# Altium footprint library Radios_Comunitarias.PcbLib: 39 footprints (part 2 of 3)
Each footprint in its own frame and in the unit in brackets; x right, y up, seen from the top. Pads: shape width x height; smd on the part's side, far side on the other; paste and mask are expansions set on the pad; w line width, h text height; cw(c..) or ccw(c..) is an arc to the next point about the centre after c.
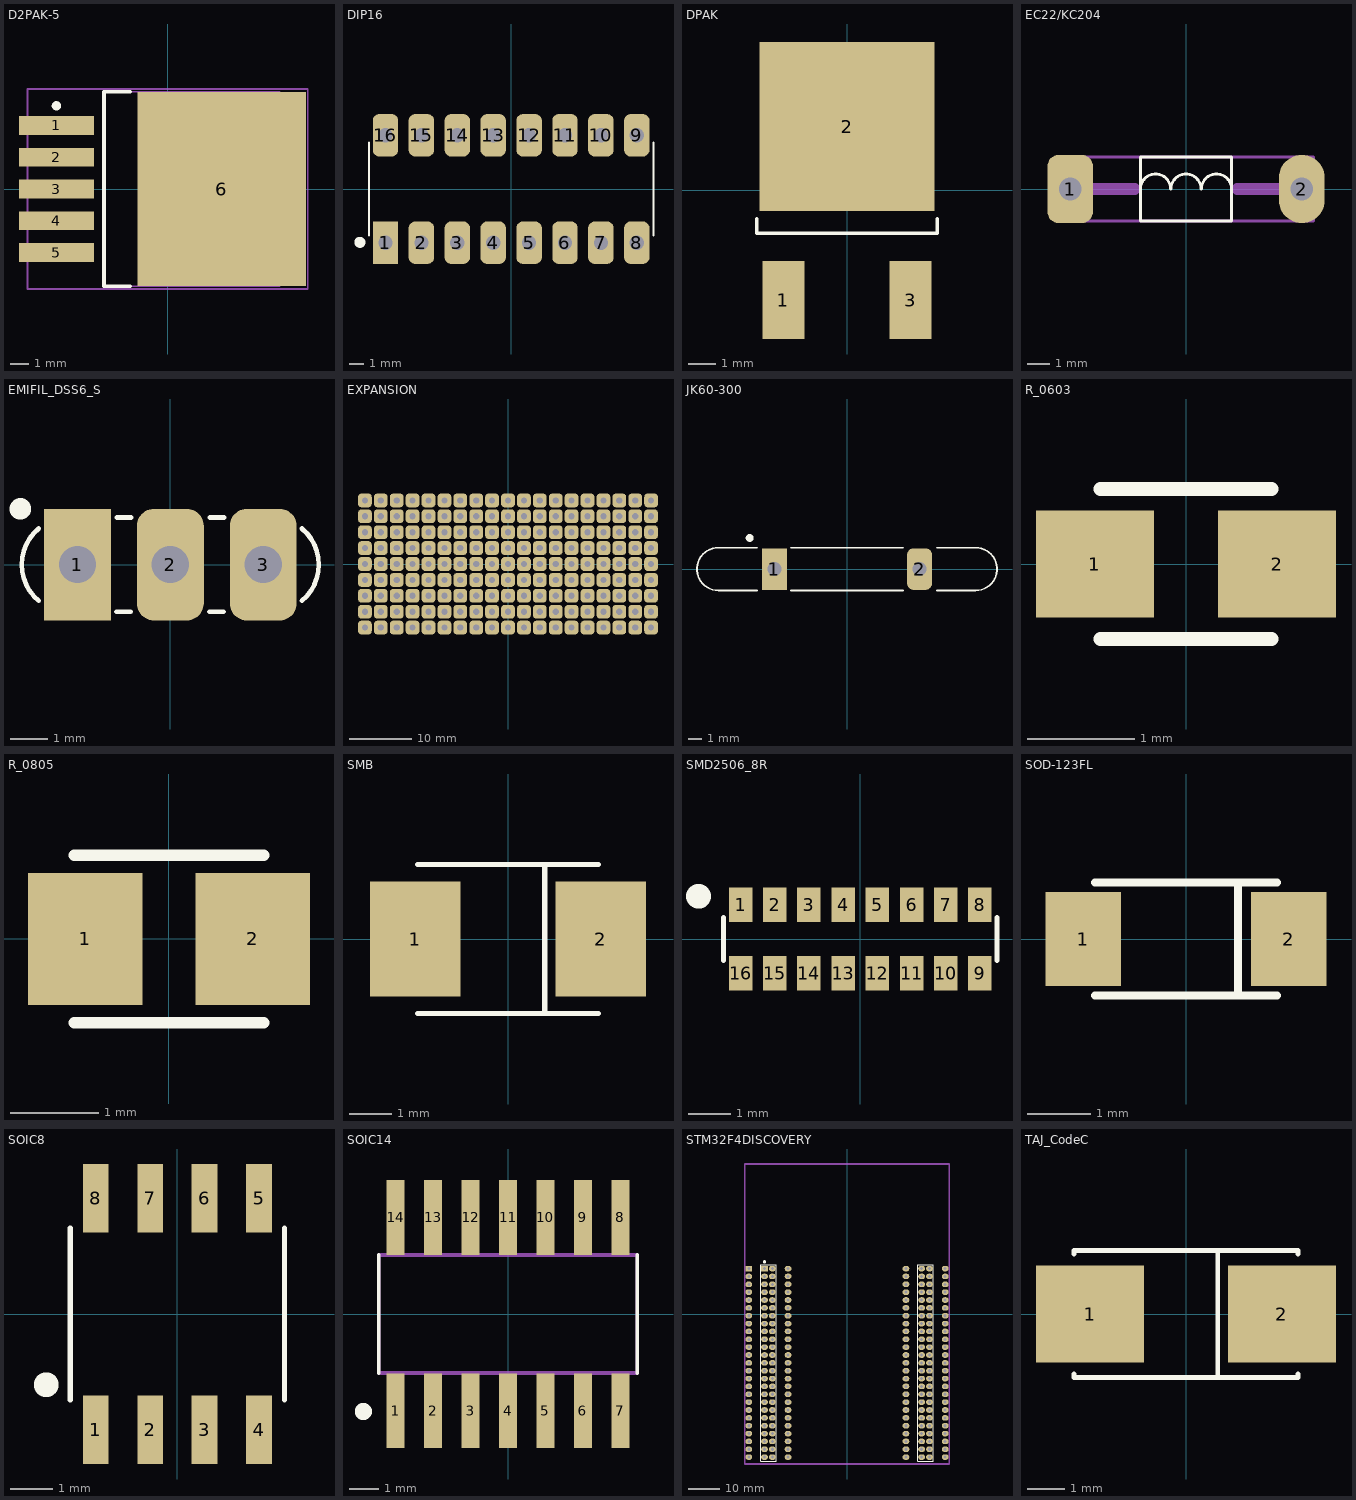
[diagram p1: the footprints below, top view; thin cyan lines are the x and y axes]

## D2PAK-5 [mm] "D2PAK 5 leads"
pads (6):
  rect 4x1 smd: 1(-5.95,3.4) 2(-5.95,1.7) 3(-5.95,0) 4(-5.95,-1.7) 5(-5.95,-3.4)
  rect 9x10.4 smd: 6(2.9,0)
Top Overlay:
  circle w0.25: c-5.95,4.45 r0.125
  lines w0.2: -2,-5.2 -3.4,-5.2 -3.4,5.2 -2,5.2
Mechanical 13:
  lines w0.1: -3.4,-5.2 6,-5.2 6,5.2 -3.4,5.2 -3.4,-5.2
Mechanical 15:
  lines w0.1: -0.5,0 0.5,0 ; 0,-0.5 0,0.5 ; -7.5,-5.35 7.5,-5.35 7.5,5.35 -7.5,5.35 -7.5,-5.35
3D body: height 4.65, standoff 0, extent -3.4,-5.2 6,5.2

## DIP16 [mm] "DIP16 sacado de la norma IPC"
height 5.33
pads (16):
  rect 1.8x3 hole 1: 1(-8.89,-3.8)
  rrect50% 1.8x3 hole 1: 2(-6.35,-3.8) 3(-3.81,-3.8) 4(-1.27,-3.8) 5(1.27,-3.8) 6(3.81,-3.8) 7(6.35,-3.8) 8(8.89,-3.8) 9(8.89,3.8) 10(6.35,3.8) 11(3.81,3.8) 12(1.27,3.8) 13(-1.27,3.8) 14(-3.81,3.8) 15(-6.35,3.8) 16(-8.89,3.8)
Top Overlay:
  circle w0.508: c-10.7,-3.775 r0.135
  lines w0.127: -10.065,-3.303 -10.065,3.303 ; 10.065,-3.303 10.065,3.303

## DPAK [mm]
pads (3):
  rect 1.5x2.8 smd: 1(-2.286,-3.95) 3(2.286,-3.95)
  rect 6.3x6.1 smd: 2(0,2.3)
Top Overlay:
  lines w0.127: -3.25,-1.025 -3.25,-1.55 3.25,-1.55 3.25,-1.025

## EC22/KC204 [mm] "Ferrite bead TH"
pads (2):
  rrect50% 2x3 hole 1 unplated: 1(-5.08,0)
  oval 2x3 hole 1 unplated: 2(5.08,0)
Top Overlay:
  lines w0.127: -1.995,0 cw(c-1.335,0) -0.675,0 ; -0.66,0 cw(c0,0) 0.66,0 ; 0.675,0 cw(c1.335,0) 1.995,0 ; -2,-1.4 -2,1.4 2,1.4 2,-1.4 -2,-1.4
Mechanical 15:
  lines w0.127: -5.588,-1.4 -5.588,1.4 5.588,1.4 5.588,-1.4 -5.588,-1.4
  lines w0.508: -5.08,0 -2.25,0 ; 2.25,0 5.08,0

## EMIFIL_DSS6_S [mm] "Emi Filter DSS6 series straight type"
height 7
pads (3):
  rect 1.8x3 hole 1: 1(-2.5,0)
  rrect50% 1.8x3 hole 1: 2(0,0) 3(2.5,0)
Top Overlay:
  circle w0.508: c-4.035,1.5 r0.035
  lines w0.127: -3.541,-0.973 cw(c-2.725,0) -3.541,0.973 ; -1.448,-1.27 -1.067,-1.27 ; -1.433,1.27 -1.052,1.27 ; 1.052,-1.27 1.433,-1.27 ; 1.067,1.27 1.448,1.27 ; 3.541,-0.973 ccw(c2.725,0) 3.541,0.973

## EXPANSION [mm]
pads (171):
  rrect50% 2.2x2.2 hole 1: ""(-22.86,-10.16) ""(-22.86,-7.62) ""(-22.86,-5.08) ""(-22.86,-2.54) ""(-22.86,0) ""(-22.86,2.54) ""(-22.86,5.08) ""(-22.86,7.62) ""(-22.86,10.16) ""(-20.32,-10.16) ""(-20.32,-7.62) ""(-20.32,-5.08) ""(-20.32,-2.54) ""(-20.32,0) ""(-20.32,2.54) ""(-20.32,5.08) ""(-20.32,7.62) ""(-20.32,10.16) ""(-17.78,-10.16) ""(-17.78,-7.62) ""(-17.78,-5.08) ""(-17.78,-2.54) ""(-17.78,0) ""(-17.78,2.54) ""(-17.78,5.08) ""(-17.78,7.62) ""(-17.78,10.16) ""(-15.24,-10.16) ""(-15.24,-7.62) ""(-15.24,-5.08) ""(-15.24,-2.54) ""(-15.24,0) ""(-15.24,2.54) ""(-15.24,5.08) ""(-15.24,7.62) ""(-15.24,10.16) ""(-12.7,-10.16) ""(-12.7,-7.62) ""(-12.7,-5.08) ""(-12.7,-2.54) ""(-12.7,0) ""(-12.7,2.54) ""(-12.7,5.08) ""(-12.7,7.62) ""(-12.7,10.16) ""(-10.16,-10.16) ""(-10.16,-7.62) ""(-10.16,-5.08) ""(-10.16,-2.54) ""(-10.16,0) ""(-10.16,2.54) ""(-10.16,5.08) ""(-10.16,7.62) ""(-10.16,10.16) ""(-7.62,-10.16) ""(-7.62,-7.62) ""(-7.62,-5.08) ""(-7.62,-2.54) ""(-7.62,0) ""(-7.62,2.54) ""(-7.62,5.08) ""(-7.62,7.62) ""(-7.62,10.16) ""(-5.08,-10.16) ""(-5.08,-7.62) ""(-5.08,-5.08) ""(-5.08,-2.54) ""(-5.08,0) ""(-5.08,2.54) ""(-5.08,5.08) ""(-5.08,7.62) ""(-5.08,10.16) ""(-2.54,-10.16) ""(-2.54,-7.62) ""(-2.54,-5.08) ""(-2.54,-2.54) ""(-2.54,0) ""(-2.54,2.54) ""(-2.54,5.08) ""(-2.54,7.62) ""(-2.54,10.16) ""(0,-10.16) ""(0,-7.62) ""(0,-5.08) ""(0,-2.54) ""(0,0) ""(0,2.54) ""(0,5.08) ""(0,7.62) ""(0,10.16) ""(2.54,-10.16) ""(2.54,-7.62) ""(2.54,-5.08) ""(2.54,-2.54) ""(2.54,0) ""(2.54,2.54) ""(2.54,5.08) ""(2.54,7.62) ""(2.54,10.16) ""(5.08,-10.16) ""(5.08,-7.62) ""(5.08,-5.08) ""(5.08,-2.54) ""(5.08,0) ""(5.08,2.54) ""(5.08,5.08) ""(5.08,7.62) ""(5.08,10.16) ""(7.62,-10.16) ""(7.62,-7.62) ""(7.62,-5.08) ""(7.62,-2.54) ""(7.62,0) ""(7.62,2.54) ""(7.62,5.08) ""(7.62,7.62) ""(7.62,10.16) ""(10.16,-10.16) ""(10.16,-7.62) ""(10.16,-5.08) ""(10.16,-2.54) ""(10.16,0) ""(10.16,2.54) ""(10.16,5.08) ""(10.16,7.62) ""(10.16,10.16) ""(12.7,-10.16) ""(12.7,-7.62) ""(12.7,-5.08) ""(12.7,-2.54) ""(12.7,0) ""(12.7,2.54) ""(12.7,5.08) ""(12.7,7.62) ""(12.7,10.16) ""(15.24,-10.16) ""(15.24,-7.62) ""(15.24,-5.08) ""(15.24,-2.54) ""(15.24,0) ""(15.24,2.54) ""(15.24,5.08) ""(15.24,7.62) ""(15.24,10.16) ""(17.78,-10.16) ""(17.78,-7.62) ""(17.78,-5.08) ""(17.78,-2.54) ""(17.78,0) ""(17.78,2.54) ""(17.78,5.08) ""(17.78,7.62) ""(17.78,10.16) ""(20.32,-10.16) ""(20.32,-7.62) ""(20.32,-5.08) ""(20.32,-2.54) ""(20.32,0) ""(20.32,2.54) ""(20.32,5.08) ""(20.32,7.62) ""(20.32,10.16) ""(22.86,-10.16) ""(22.86,-7.62) ""(22.86,-5.08) ""(22.86,-2.54) ""(22.86,0) ""(22.86,2.54) ""(22.86,5.08) ""(22.86,7.62) ""(22.86,10.16)

## JK60-300 [mm] "Poly de JK60-300"
height 26.4
pads (2):
  rect 1.8x3 hole 1: 1(-5.25,0)
  rrect50% 1.8x3 hole 1: 2(5.25,0)
Top Overlay:
  circle w0.508: c-7.035,2.25 r0.035
  lines w0.127: -6.5,-1.55 -9.3,-1.55 cw(c-9.3,0) -9.3,1.55 -6.5,1.55 ; -4.05,-1.55 4.05,-1.55 ; -4.05,1.55 4.05,1.55 ; 6.5,-1.55 9.3,-1.55 ccw(c9.3,0) 9.3,1.55 6.5,1.55

## R_0603 [mm] "Resistencia SMD 0603"
height 0.6
pads (2):
  rect 1.1x1 smd: 1(-0.85,0) 2(0.85,0)
Top Overlay:
  lines w0.127: -0.8,-0.7 0.8,-0.7 ; -0.8,0.7 0.8,0.7

## R_0805 [mm] "Resistencia SMD 0805"
height 0.65
pads (2):
  rect 1.3x1.5 smd: 1(-0.95,0) 2(0.95,0)
Top Overlay:
  lines w0.127: -1.075,-0.95 1.075,-0.95 ; -1.075,0.95 1.075,0.95

## SMB [mm] "Componente SMB (sacado del diodo TVS)"
height 2.45
pads (2):
  rect 2.159x2.743 smd: 1(-2.21,0) 2(2.21,0)
Top Overlay:
  lines w0.127: -2.16,-1.78 2.16,-1.78 ; -2.16,1.78 2.16,1.78 ; 0.875,-1.78 0.875,1.78

## SMD2506_8R [mm] "Array SMD de 8 resistencias (0603x8)"
height 0.6
pads (16):
  rect 0.55x0.8 smd: 1(-2.8,0.8) 2(-2,0.8) 3(-1.2,0.8) 4(-0.4,0.8) 5(0.4,0.8) 6(1.2,0.8) 7(2,0.8) 8(2.8,0.8) 9(2.8,-0.8) 10(2,-0.8) 11(1.2,-0.8) 12(0.4,-0.8) 13(-0.4,-0.8) 14(-1.2,-0.8) 15(-2,-0.8) 16(-2.8,-0.8)
Top Overlay:
  circle w0.508: c-3.785,1 r0.035
  lines w0.127: -3.2,-0.5 -3.2,0.5 ; 3.2,-0.5 3.2,0.5

## SOD-123FL [mm] "Encapsulado SMD"
height 1
pads (2):
  rect 1.2x1.5 smd: 1(-1.637,0) 2(1.637,0)
Top Overlay:
  lines w0.127: -1.45,-0.9 1.45,-0.9 ; -1.45,0.9 1.45,0.9 ; 0.825,-0.9 0.825,0.9

## SOIC8 [mm] "SOIC8"
height 1.75
pads (8):
  rect 0.6x1.6 smd: 1(-1.905,-2.7) 2(-0.635,-2.7) 3(0.635,-2.7) 4(1.905,-2.7) 5(1.905,2.7) 6(0.635,2.7) 7(-0.635,2.7) 8(-1.905,2.7)
Top Overlay:
  circle w0.508: c-3.06,-1.65 r0.035
  lines w0.127: -2.5,-2 -2.5,2 ; 2.5,-2 2.5,2

## SOIC14 [mm] "SOIC14"
height 1.75
pads (14):
  rect 0.6x2.54 smd: 1(-3.81,-3.277) 2(-2.54,-3.277) 3(-1.27,-3.277) 4(0,-3.277) 5(1.27,-3.277) 6(2.54,-3.277) 7(3.81,-3.277) 8(3.81,3.277) 9(2.54,3.277) 10(1.27,3.277) 11(0,3.277) 12(-1.27,3.277) 13(-2.54,3.277) 14(-3.81,3.277)
Top Overlay:
  circle w0.508: c-4.9,-3.3 r0.035
  lines w0.127: -4.375,-2 -4.375,2 ; 4.375,-2 4.375,2
Mechanical 15:
  lines w0.127: -4.375,-2 4.375,-2 4.375,2 -4.375,2 -4.375,-2

## STM32F4DISCOVERY [mm] "STM32F4DISCOVERY (STM32F407VGT6)"
pads (200):
  rect 2.2x1.8 hole 1: P1.1(-31.75,14.68) P1.1(-26.67,14.68)
  oval 2.2x1.8 hole 1: P1.2(-24.13,14.68) P1.2(-19.05,14.68) P1.3(-31.75,12.14) P1.3(-26.67,12.14) P1.4(-24.13,12.14) P1.4(-19.05,12.14) P1.5(-31.75,9.6) P1.5(-26.67,9.6) P1.6(-24.13,9.6) P1.6(-19.05,9.6) P1.7(-31.75,7.06) P1.7(-26.67,7.06) P1.8(-24.13,7.06) P1.8(-19.05,7.06) P1.9(-31.75,4.52) P1.9(-26.67,4.52) P1.10(-24.13,4.52) P1.10(-19.05,4.52) P1.11(-31.75,1.98) P1.11(-26.67,1.98) P1.12(-24.13,1.98) P1.12(-19.05,1.98) P1.13(-31.75,-0.56) P1.13(-26.67,-0.56) P1.14(-24.13,-0.56) P1.14(-19.05,-0.56) P1.15(-31.75,-3.1) P1.15(-26.67,-3.1) P1.16(-24.13,-3.1) P1.16(-19.05,-3.1) P1.17(-31.75,-5.64) P1.17(-26.67,-5.64) P1.18(-24.13,-5.64) P1.18(-19.05,-5.64) P1.19(-31.75,-8.18) P1.19(-26.67,-8.18) P1.20(-24.13,-8.18) P1.20(-19.05,-8.18) P1.21(-31.75,-10.72) P1.21(-26.67,-10.72) P1.22(-24.13,-10.72) P1.22(-19.05,-10.72) P1.23(-31.75,-13.26) P1.23(-26.67,-13.26) P1.24(-24.13,-13.26) P1.24(-19.05,-13.26) P1.25(-31.75,-15.8) P1.25(-26.67,-15.8) P1.26(-24.13,-15.8) P1.26(-19.05,-15.8) P1.27(-31.75,-18.34) P1.27(-26.67,-18.34) P1.28(-24.13,-18.34) P1.28(-19.05,-18.34) P1.29(-31.75,-20.88) P1.29(-26.67,-20.88) P1.30(-24.13,-20.88) P1.30(-19.05,-20.88) P1.31(-31.75,-23.42) P1.31(-26.67,-23.42) P1.32(-24.13,-23.42) P1.32(-19.05,-23.42) P1.33(-31.75,-25.96) P1.33(-26.67,-25.96) P1.34(-24.13,-25.96) P1.34(-19.05,-25.96) P1.35(-31.75,-28.5) P1.35(-26.67,-28.5) P1.36(-24.13,-28.5) P1.36(-19.05,-28.5) P1.37(-31.75,-31.04) P1.37(-26.67,-31.04) P1.38(-24.13,-31.04) P1.38(-19.05,-31.04) P1.39(-31.75,-33.58) P1.39(-26.67,-33.58) P1.40(-24.13,-33.58) P1.40(-19.05,-33.58) P1.41(-31.75,-36.12) P1.41(-26.67,-36.12) P1.42(-24.13,-36.12) P1.42(-19.05,-36.12) P1.43(-31.75,-38.66) P1.43(-26.67,-38.66) P1.44(-24.13,-38.66) P1.44(-19.05,-38.66) P1.45(-31.75,-41.2) P1.45(-26.67,-41.2) P1.46(-24.13,-41.2) P1.46(-19.05,-41.2) P1.47(-31.75,-43.74) P1.47(-26.67,-43.74) P1.48(-24.13,-43.74) P1.48(-19.05,-43.74) P1.49(-31.75,-46.28) P1.49(-26.67,-46.28) P1.50(-24.13,-46.28) P1.50(-19.05,-46.28) P2.1(19.05,14.68) P2.1(24.13,14.68) P2.2(26.67,14.68) P2.2(31.75,14.68) P2.3(19.05,12.14) P2.3(24.13,12.14) P2.4(26.67,12.14) P2.4(31.75,12.14) P2.5(19.05,9.6) P2.5(24.13,9.6) P2.6(26.67,9.6) P2.6(31.75,9.6) P2.7(19.05,7.06) P2.7(24.13,7.06) P2.8(26.67,7.06) P2.8(31.75,7.06) P2.9(19.05,4.52) P2.9(24.13,4.52) P2.10(26.67,4.52) P2.10(31.75,4.52) P2.11(19.05,1.98) P2.11(24.13,1.98) P2.12(26.67,1.98) P2.12(31.75,1.98) P2.13(19.05,-0.56) P2.13(24.13,-0.56) P2.14(26.67,-0.56) P2.14(31.75,-0.56) P2.15(19.05,-3.1) P2.15(24.13,-3.1) P2.16(26.67,-3.1) P2.16(31.75,-3.1) P2.17(19.05,-5.64) P2.17(24.13,-5.64) P2.18(26.67,-5.64) P2.18(31.75,-5.64) P2.19(19.05,-8.18) P2.19(24.13,-8.18) P2.20(26.67,-8.18) P2.20(31.75,-8.18) P2.21(19.05,-10.72) P2.21(24.13,-10.72) P2.22(26.67,-10.72) P2.22(31.75,-10.72) P2.23(19.05,-13.26) P2.23(24.13,-13.26) P2.24(26.67,-13.26) P2.24(31.75,-13.26) P2.25(19.05,-15.8) P2.25(24.13,-15.8) P2.26(26.67,-15.8) P2.26(31.75,-15.8) P2.27(19.05,-18.34) P2.27(24.13,-18.34) P2.28(26.67,-18.34) P2.28(31.75,-18.34) P2.29(19.05,-20.88) P2.29(24.13,-20.88) P2.30(26.67,-20.88) P2.30(31.75,-20.88) P2.31(19.05,-23.42) P2.31(24.13,-23.42) P2.32(26.67,-23.42) P2.32(31.75,-23.42) P2.33(19.05,-25.96) P2.33(24.13,-25.96) P2.34(26.67,-25.96) P2.34(31.75,-25.96) P2.35(19.05,-28.5) P2.35(24.13,-28.5) P2.36(26.67,-28.5) P2.36(31.75,-28.5) P2.37(19.05,-31.04) P2.37(24.13,-31.04) P2.38(26.67,-31.04) P2.38(31.75,-31.04) P2.39(19.05,-33.58) P2.39(24.13,-33.58) P2.40(26.67,-33.58) P2.40(31.75,-33.58) P2.41(19.05,-36.12) P2.41(24.13,-36.12) P2.42(26.67,-36.12) P2.42(31.75,-36.12) P2.43(19.05,-38.66) P2.43(24.13,-38.66) P2.44(26.67,-38.66) P2.44(31.75,-38.66) P2.45(19.05,-41.2) P2.45(24.13,-41.2) P2.46(26.67,-41.2) P2.46(31.75,-41.2) P2.47(19.05,-43.74) P2.47(24.13,-43.74) P2.48(26.67,-43.74) P2.48(31.75,-43.74) P2.49(19.05,-46.28) P2.49(24.13,-46.28) P2.50(26.67,-46.28) P2.50(31.75,-46.28)
Top Overlay:
  circle w0.508: c-26.685,16.875 r0.265
  lines w0.127: -27.94,-47.55 -27.94,15.95 -22.86,15.95 -22.86,-47.55 -27.94,-47.55 ; 22.86,-47.55 27.94,-47.55 27.94,15.95 22.86,15.95 22.86,-47.55
Mechanical 15:
  lines w0.508: -33,-48.5 -33,48.5 33,48.5 33,-48.5 -33,-48.5

## TAJ_CodeC [mm] "Capacitor de tantalio C"
height 2.8
pads (2):
  rect 2.9x2.6 smd: 1(-2.57,0) 2(2.57,0)
Top Overlay:
  lines w0.127: -3,-1.6 -3,-1.7 3,-1.7 3,-1.6 ; -3,1.6 -3,1.7 3,1.7 3,1.6 ; 0.85,-1.7 0.85,1.7